# EAGLE library part ALM-1412 (library untitled)
GPS Antenna Amp Filter and Amp built into one. Very small package.
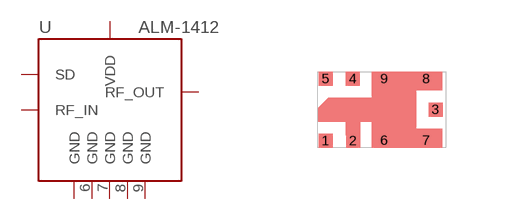
[diagram p103: symbol with the pads of ALM-1412; footprint ALM-1412]

Designator prefix -

## ALM-1412SMD  [ALM-1412]
1  SD
2  GND
3  RF_OUT
4  VDD
5  RF_IN
6  GND
7  GND
8  GND
9  GND

## Footprint ALM-1412 (pad centres in mm)
smd 0.35 x 0.35: 1 0,0.17; 2 0.69,0.17; 3 2.75,0.95; 4 0.68,1.72; 5 0,1.72; 6 1.47,0.18; 7 2.52,0.18; 8 2.52,1.72; 9 1.47,1.72